# Altium schematic symbol library FXL0420.SchLib: 1 symbol
Pins are listed as number, name and electrical type; pins without a type are passive.

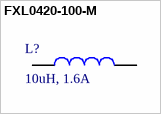
[diagram p0: symbol FXL0420-100-M]

## FXL0420-100-M
designator L?, comment 10uH, 1.6A
1.6A 10uH Integrated molded inductor ±20% 2.2A SMD,4.2x4.4mm Power Inductors ROHS; Manufacturer: cjiang; Manufacturer Part Number: FXL0420-100-M; DC Resistance max.: 0.282 Ohm; Rated Voltage: 80VDC; ComponentLink1Description: Datasheet; ComponentLink1URL: https://www.lcsc.com/datasheet/lcsc_datasheet_2404260921_cjiang--Changjiang-Microelectronics-Tech-FXL0420-100-M_C177242.pdf; DC Resistance typ.: N/A; Inductance: 10uH; LCSC Part #: C177242; Mount: SMD/SMT; Operating Temperature: -40 to +125degC; Packaging: Tape and Reel; Rated Current: 1.6A; Saturation Current: 2.2A; Self Resonant Frequency: N/A; Size: 0420; Supplier 1: Mouser; Supplier 1 Part Number: N/A; Supplier 1 URL: N/A; Supplier 2: Digi-Key; Supplier 2 Part Number: N/A; Supplier 2 URL: N/A; Supplier 3: thegioiic; Supplier 3 Part Number: N/A; Supplier 3 URL: N/A; Value: 10uH, 1.6A
footprint FXL0420
pins: 1, 2